# Altium footprint library passive.PcbLib: 12 footprints
Each footprint in its own frame and in the unit in brackets; x right, y up, seen from the top. Pads: shape width x height; smd on the part's side, far side on the other; paste and mask are expansions set on the pad; w line width, h text height; cw(c..) or ccw(c..) is an arc to the next point about the centre after c.
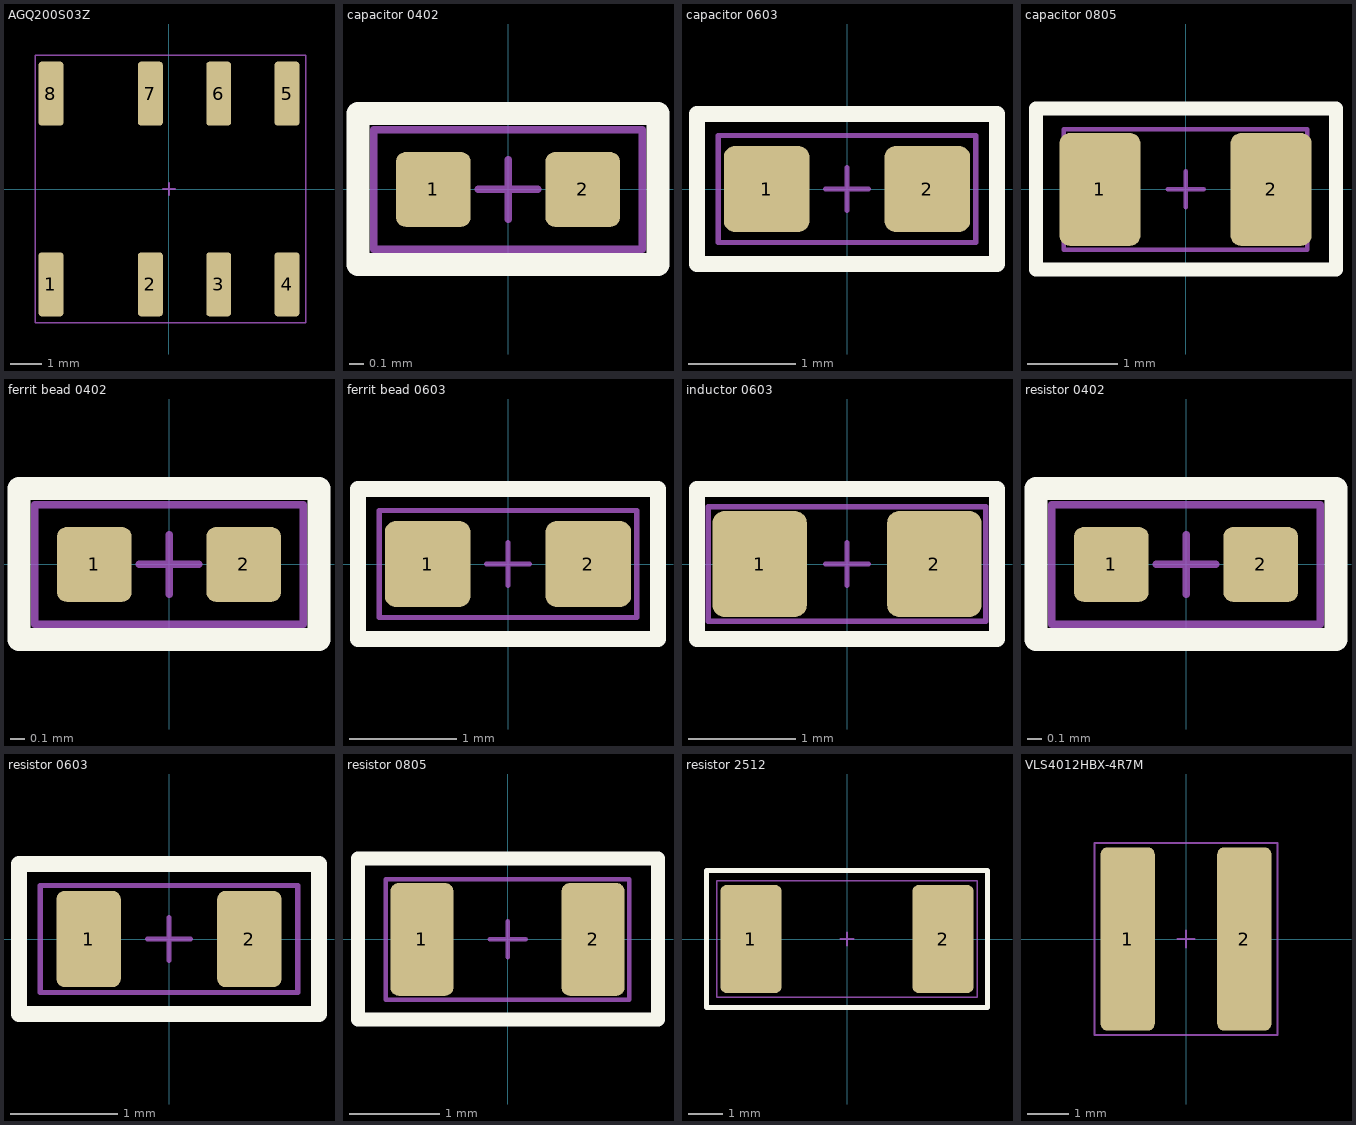
[diagram p0: the footprints below, top view; thin cyan lines are the x and y axes]

## AGQ200S03Z [mm]
pads (8):
  rrect25% 0.8x2.06 smd: 1(-3.8,-3.07) 2(-0.6,-3.07) 3(1.6,-3.07) 4(3.8,-3.07) 5(3.8,3.07) 6(1.6,3.07) 7(-0.6,3.07) 8(-3.8,3.07)
Top Assembly:
  lines w0.05: -4.3,-4.3 -4.3,4.3 4.4,4.3 4.4,-4.3 -4.3,-4.3
Top Placement:
  lines w0.05: -0.2,0 0.2,0 ; 0,-0.2 0,0.2 ; -4.3,-4.3 4.4,-4.3 4.4,4.3 -4.3,4.3 -4.3,-4.3

## capacitor 0402 [mm]
pads (2):
  rrect25% 0.5x0.5 smd: 1(-0.5,0) 2(0.5,0)
Top Overlay:
  lines w0.153: -1.004,-0.501 -1.004,0.508 1.004,0.508 1.004,-0.501 -1.004,-0.501
Top Assembly:
  lines w0.05: -0.9,-0.4 0.9,-0.4 0.9,0.4 -0.9,0.4 -0.9,-0.4
Top Placement:
  lines w0.05: -0.2,0 0.2,0 ; 0,-0.2 0,0.2 ; -0.9,-0.4 -0.9,0.4 0.9,0.4 0.9,-0.4 -0.9,-0.4
3D body "User Library-SMD CAPACITOR.step": height 0.5, standoff 0, extent -0.5,-0.25 0.5,0.25

## capacitor 0603 [mm]
pads (2):
  rrect25% 0.8x0.8 smd: 1(-0.75,0) 2(0.75,0)
Top Overlay:
  lines w0.153: -1.4,-0.7 1.4,-0.7 1.4,0.7 -1.4,0.7 -1.4,-0.7
Top Assembly:
  lines w0.05: -1.2,-0.5 -1.2,0.5 ; -1.2,-0.5 1.2,-0.5 ; -1.2,-0.5 -1.2,0.5 ; -1.2,-0.5 1.2,-0.5 ; -1.2,0.5 1.2,0.5 ; -1.2,0.5 1.2,0.5 ; 1.2,-0.5 1.2,0.5 ; 1.2,-0.5 1.2,0.5
Top Placement:
  lines w0.05: -0.2,0 0.2,0 ; 0,-0.2 0,0.2 ; -1.2,-0.5 1.2,-0.5 1.2,0.5 -1.2,0.5 -1.2,-0.5
3D body "User Library-SMD CAPACITOR(1).step": height 0.8, standoff 0, extent -0.8,-0.4 0.8,0.4

## capacitor 0805 [mm]
pads (2):
  rrect25% 0.9x1.25 smd: 1(-0.95,0) 2(0.95,0)
Top Overlay:
  lines w0.153: -1.66,-0.89 -1.66,0.9 1.67,0.9 1.67,-0.89 -1.66,-0.89
Top Assembly:
  lines w0.05: -1.35,-0.67 -1.35,0.67 1.35,0.67 1.35,-0.67 -1.35,-0.67
Top Placement:
  lines w0.05: -0.2,0 0.2,0 ; 0,-0.2 0,0.2 ; -1.35,-0.67 -1.35,0.67 1.35,0.67 1.35,-0.67 -1.35,-0.67
3D body "User Library-SMD CAPACITOR(2).step": height 0.6, standoff 0, extent -1,-0.625 1,0.625

## ferrit bead 0402 [mm]
pads (2):
  rrect25% 0.5x0.5 smd: 1(-0.5,0) 2(0.5,0)
Top Overlay:
  lines w0.153: -1.004,-0.501 1.004,-0.501 1.004,0.508 -1.004,0.508 -1.004,-0.501
Top Assembly:
  lines w0.05: -0.9,-0.4 -0.9,0.4 0.9,0.4 0.9,-0.4 -0.9,-0.4
Top Placement:
  lines w0.05: -0.2,0 0.2,0 ; 0,-0.2 0,0.2 ; -0.9,-0.4 0.9,-0.4 0.9,0.4 -0.9,0.4 -0.9,-0.4
3D body "User Library-FB_1005.STEP": height 0.5, standoff 0, extent -0.5,-0.25 0.5,0.25

## ferrit bead 0603 [mm]
pads (2):
  rrect25% 0.8x0.8 smd: 1(-0.75,0) 2(0.75,0)
Top Overlay:
  lines w0.153: -1.4,-0.7 1.4,-0.7 1.4,0.7 -1.4,0.7 -1.4,-0.7
Top Assembly:
  lines w0.05: -1.2,-0.5 1.2,-0.5 1.2,0.5 -1.2,0.5 -1.2,-0.5
Top Placement:
  lines w0.05: -0.2,0 0.2,0 ; 0,-0.2 0,0.2 ; -1.2,-0.5 -1.2,0.5 1.2,0.5 1.2,-0.5 -1.2,-0.5
3D body "User Library-FB_1608-1.STEP": height 0.8, standoff 0, extent -0.794,-0.403 0.806,0.397

## inductor 0603 [mm]
pads (2):
  rrect25% 0.88x0.99 smd: 1(-0.815,0) 2(0.815,0)
Top Overlay:
  lines w0.153: -1.4,-0.7 -1.4,0.7 1.4,0.7 1.4,-0.7 -1.4,-0.7
Top Assembly:
  lines w0.05: -1.295,-0.535 1.295,-0.535 1.295,0.535 -1.295,0.535 -1.295,-0.535
Top Placement:
  lines w0.05: -0.2,0 0.2,0 ; 0,-0.2 0,0.2 ; -1.295,-0.535 1.295,-0.535 1.295,0.535 -1.295,0.535 -1.295,-0.535
3D body "INDC1608X09N.step": height 0.91, standoff 0, extent -0.875,-0.48 0.875,0.48

## resistor 0402 [mm]
pads (2):
  rrect25% 0.5x0.5 smd: 1(-0.5,0) 2(0.5,0)
Top Overlay:
  lines w0.153: -1.004,-0.501 -1.004,0.508 1.004,0.508 1.004,-0.501 -1.004,-0.501
Top Assembly:
  lines w0.05: -0.9,-0.4 0.9,-0.4 0.9,0.4 -0.9,0.4 -0.9,-0.4
Top Placement:
  lines w0.05: -0.2,0 0.2,0 ; 0,-0.2 0,0.2 ; -0.9,-0.4 -0.9,0.4 0.9,0.4 0.9,-0.4 -0.9,-0.4
3D body "User Library-R_0402.STEP": height 0.35, standoff 0, extent -0.5,-0.25 0.5,0.25

## resistor 0603 [mm]
pads (2):
  rrect25% 0.6x0.9 smd: 1(-0.75,0) 2(0.75,0)
Top Overlay:
  lines w0.153: -1.4,-0.7 -1.4,0.7 1.4,0.7 1.4,-0.7 -1.4,-0.7
Top Assembly:
  lines w0.05: -1.2,-0.5 -1.2,0.5 1.2,0.5 1.2,-0.5 -1.2,-0.5
Top Placement:
  lines w0.05: -0.2,0 0.2,0 ; 0,-0.2 0,0.2 ; -1.2,-0.5 1.2,-0.5 1.2,0.5 -1.2,0.5 -1.2,-0.5
3D body "User Library-R_0603.STEP": height 0.5, standoff 0, extent -0.8,-0.45 0.8,0.45

## resistor 0805 [mm]
pads (2):
  rrect25% 0.7x1.25 smd: 1(-0.95,0) 2(0.95,0)
Top Overlay:
  lines w0.153: -1.66,-0.89 -1.66,0.9 1.67,0.9 1.67,-0.89 -1.66,-0.89
Top Assembly:
  lines w0.05: -1.35,-0.67 1.35,-0.67 1.35,0.67 -1.35,0.67 -1.35,-0.67
Top Placement:
  lines w0.05: -0.2,0 0.2,0 ; 0,-0.2 0,0.2 ; -1.35,-0.67 1.35,-0.67 1.35,0.67 -1.35,0.67 -1.35,-0.67
3D body "User Library-R_0805.STEP": height 0.5, standoff 0, extent -1,-0.625 1,0.625

## resistor 2512 [mm]
pads (2):
  rrect20% 1.79x3.15 smd: 1(-2.8,0) 2(2.8,0)
Top Overlay:
  lines w0.153: -4.1,-2 -4.1,2 4.1,2 4.1,-2 -4.1,-2
Top Assembly:
  lines w0.05: -3.8,-1.7 3.8,-1.7 3.8,1.7 -3.8,1.7 -3.8,-1.7
Top Placement:
  lines w0.05: -0.2,0 0.2,0 ; 0,-0.2 0,0.2 ; -3.8,-1.7 3.8,-1.7 3.8,1.7 -3.8,1.7 -3.8,-1.7
3D body "User Library-R SMD 2512.STEP": height 0.6, standoff 0, extent -3.131,-1.575 3.169,1.575

## VLS4012HBX-4R7M [mm]
pads (2):
  rrect25% 1.3x4.4 smd: 1(-1.4,0) 2(1.4,0)
Top Assembly:
  lines w0.05: -2.2,-2.3 2.2,-2.3 2.2,2.3 -2.2,2.3 -2.2,-2.3
Top Placement:
  lines w0.05: -0.2,0 0.2,0 ; 0,-0.2 0,0.2 ; -2.2,-2.3 2.2,-2.3 2.2,2.3 -2.2,2.3 -2.2,-2.3
3D body "vls4012hbx(1).step": height 1.19, standoff -0.01, extent -2.005,-1.997 2.005,2.007